# Altium integrated library RL2010JK-070R2L.IntLib: 1 symbol
Pins are listed as number, name and electrical type; pins without a type are passive.

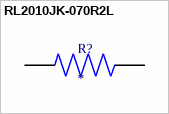
[diagram p0: symbol RL2010JK-070R2L]

## RL2010JK-070R2L
designator R?
200 mOhms Â±5% 0.75W, 3/4W Chip Resistor 2010 (5125 Metric) Automotive AEC-Q200, Current Sense, Moisture Resistant Thick Film; MF: Yageo; MP: RL2010JK-070R2L; SnapEDA_Link: https://www.snapeda.com/parts/RL2010JK-070R2L/Yageo/view-part/?ref=snap; Package: 5025 Yageo; Value: *; Check_prices: https://www.snapeda.com/parts/RL2010JK-070R2L/Yageo/view-part/?ref=eda
footprint RESC5025X65N
pins: 1, 2